# EAGLE library part MICROSD (library pomodoro_timer)
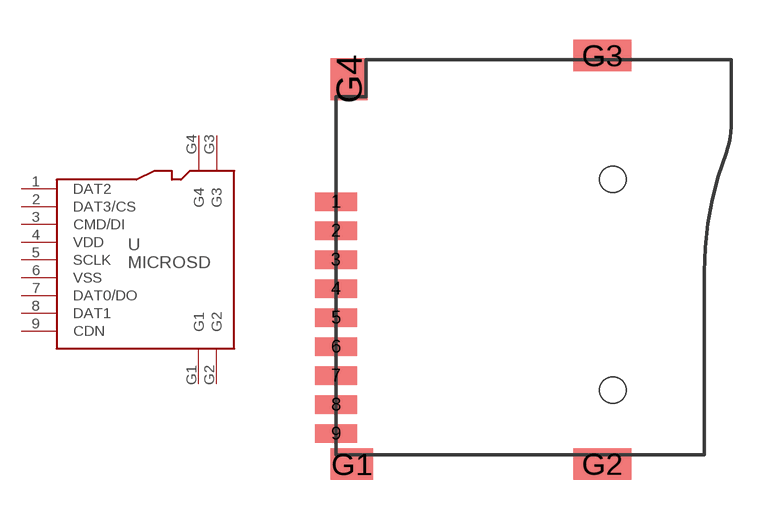
[diagram p1: symbol with the pads of MICROSD; footprint MICROSD]

Designator prefix U

## MICROSD  [MICROSD]
1  DAT2
2  DAT3/CS
3  CMD/DI
4  VDD
5  SCLK
6  VSS
7  DAT0/DO
8  DAT1
9  CDN
G1  G1
G2  G2
G3  G3
G4  G4

## Footprint MICROSD (pad centres in mm)
smd 1.6 x 0.7: 1 0,4.4; 2 0,3.3; 3 0,2.2; 4 0,1.1; 5 0,0; 6 0,-1.1; 7 0,-2.2; 8 0,-3.3; 9 0,-4.4
smd 1.6 x 1.2: G1 0.6,-5.56
smd 2.2 x 1.2: G2 10.1,-5.55; G3 10.1,9.95
smd 1.4 x 1.6: G4 0.5,9.05
hole 1 at 10.5,-2.75
hole 1 at 10.5,5.25